# EAGLE library part STM32H747XIH6 (library sjg-stm32)
ARM Microcontrollers - MCU Source: Datasheet <https://www.st.com/en/microcontrollers-microprocessors/stm32h747xi.html>
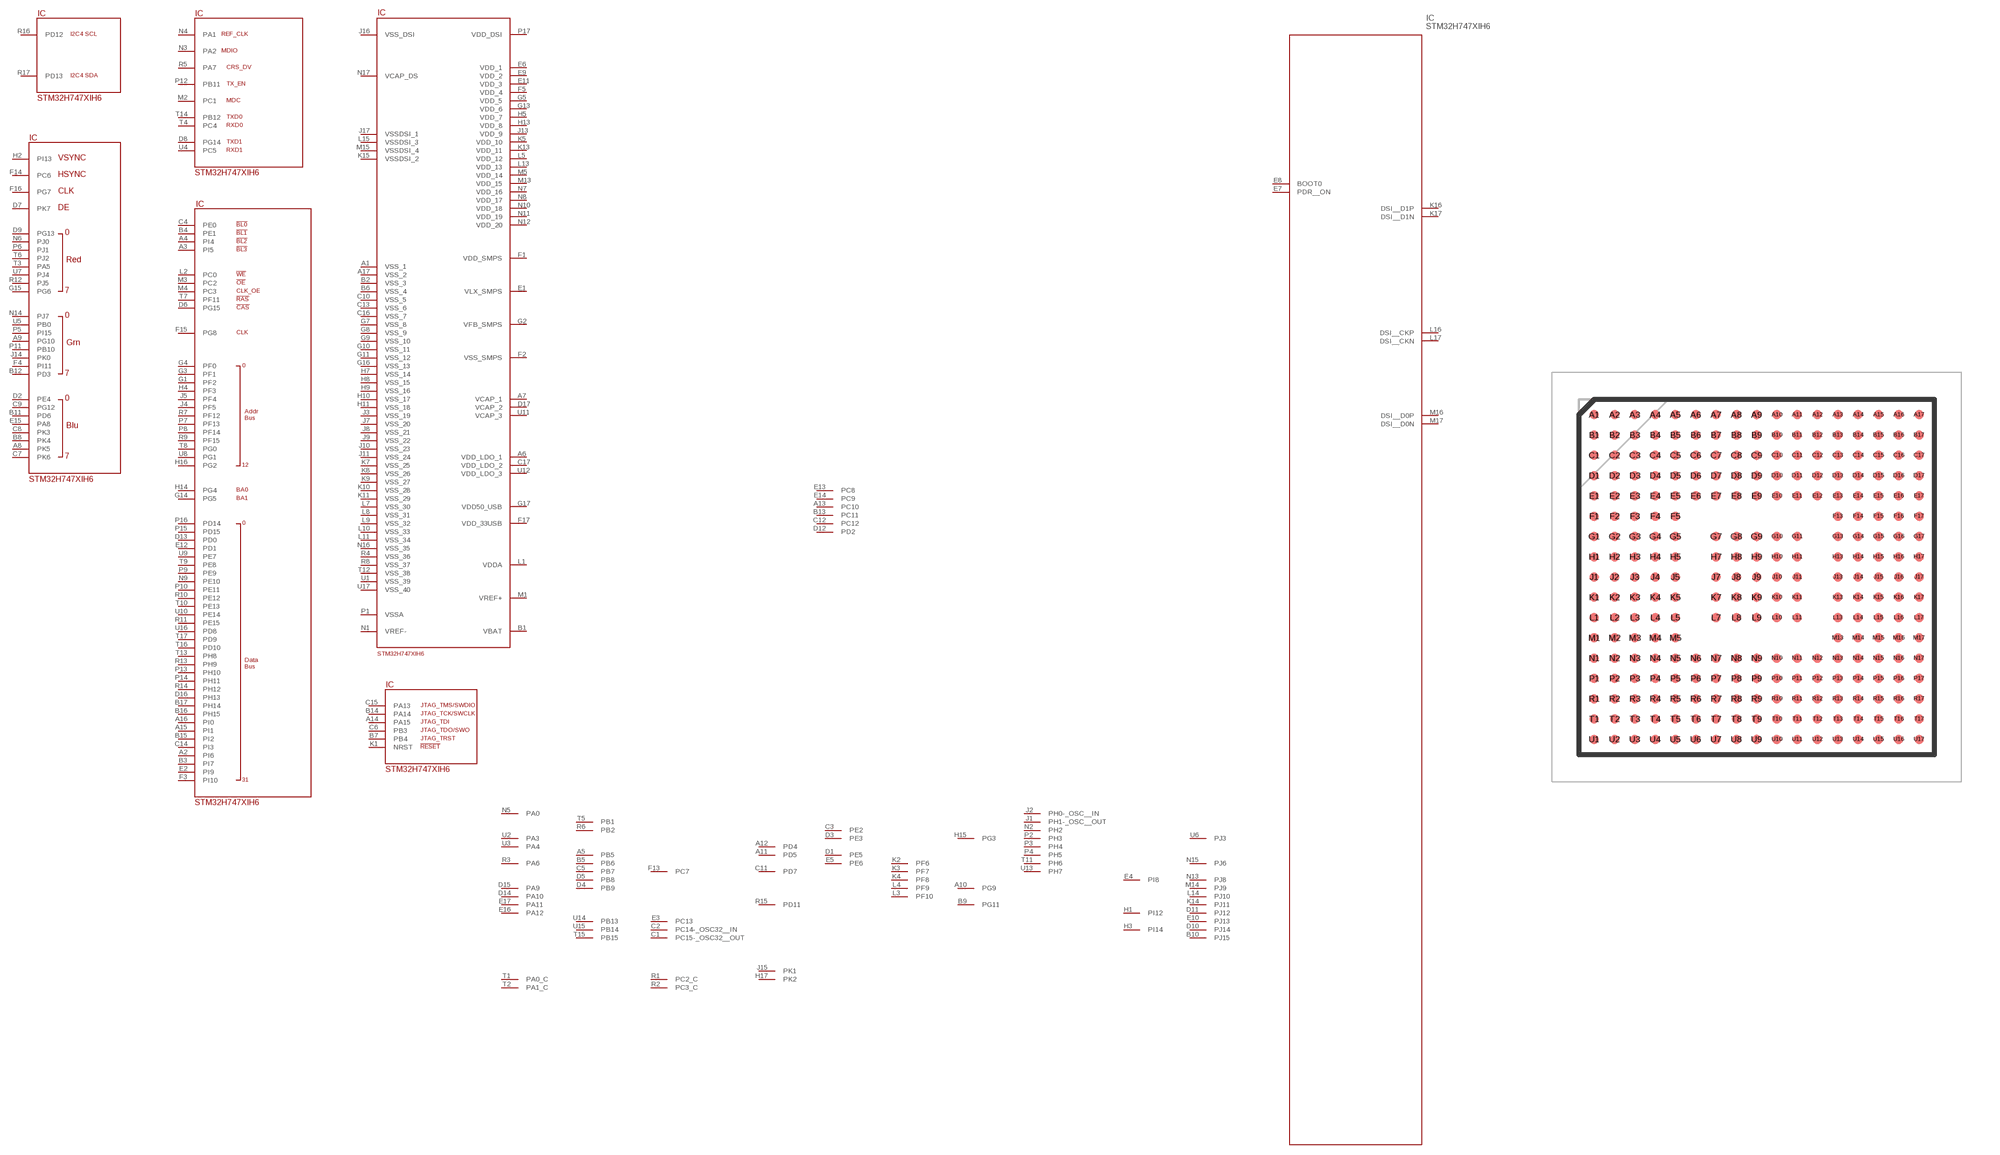
[diagram p9: symbol with the pads of BGA265C80P17X17_1400X1400X110; footprint BGA265C80P17X17_1400X1400X110]

Designator prefix IC

## STM32H747XIH6 (DESCRIPTION: ARM Microcontrollers - MCU; HEIGHT: 1.1mm; MANUFACTURER_NAME: STMicroelectronics; MANUFACTURER_PART_NUMBER: STM32H747XIH6; MOUSER_PART_NUMBER: 511-STM32H747XIH6; MOUSER_PRICE-STOCK: https://www.mouser.com/Search/Refine.aspx?Keyword=511-STM32H747XIH6)  [BGA265C80P17X17_1400X1400X110]
A1  VSS_1
A2  PI6
A3  PI5
A4  PI4
A5  PB5
A6  VDD_LDO_1
A7  VCAP_1
A8  PK5
A9  PG10
A10  PG9
A11  PD5
A12  PD4
A13  PC10
A14  PA15
A15  PI1
A16  PI0
A17  VSS_2
B1  VBAT
B2  VSS_3
B3  PI7
B4  PE1
B5  PB6
B6  VSS_4
B7  PB4
B8  PK4
B9  PG11
B10  PJ15
B11  PD6
B12  PD3
B13  PC11
B14  PA14
B15  PI2
B16  PH15
B17  PH14
C1  PC15-_OSC32__OUT
C2  PC14-_OSC32__IN
C3  PE2
C4  PE0
C5  PB7
C6  PB3
C7  PK6
C8  PK3
C9  PG12
C10  VSS_5
C11  PD7
C12  PC12
C13  VSS_6
C14  PI3
C15  PA13
C16  VSS_7
C17  VDD_LDO_2
D1  PE5
D2  PE4
D3  PE3
D4  PB9
D5  PB8
D6  PG15
D7  PK7
D8  PG14
D9  PG13
D10  PJ14
D11  PJ12
D12  PD2
D13  PD0
D14  PA10
D15  PA9
D16  PH13
D17  VCAP_2
E1  VLX_SMPS
E2  PI9
E3  PC13
E4  PI8
E5  PE6
E6  VDD_1
E7  PDR__ON
E8  BOOT0
E9  VDD_2
E10  PJ13
E11  VDD_3
E12  PD1
E13  PC8
E14  PC9
E15  PA8
E16  PA12
E17  PA11
F1  VDD_SMPS
F2  VSS_SMPS
F3  PI10
F4  PI11
F5  VDD_4
F13  PC7
F14  PC6
F15  PG8
F16  PG7
F17  VDD_33USB
G1  PF2
G2  VFB_SMPS
G3  PF1
G4  PF0
G5  VDD_5
G7  VSS_8
G8  VSS_9
G9  VSS_10
G10  VSS_11
G11  VSS_12
G13  VDD_6
G14  PG5
G15  PG6
G16  VSS_13
G17  VDD50_USB
H1  PI12
H2  PI13
H3  PI14
H4  PF3
H5  VDD_7
H7  VSS_14
H8  VSS_15
H9  VSS_16
H10  VSS_17
H11  VSS_18
H13  VDD_8
H14  PG4
H15  PG3
H16  PG2
H17  PK2
J1  PH1-_OSC__OUT
J2  PH0-_OSC__IN
J3  VSS_19
J4  PF5
J5  PF4
J7  VSS_20
J8  VSS_21
J9  VSS_22
J10  VSS_23
J11  VSS_24
J13  VDD_9
J14  PK0
J15  PK1
J16  VSS_DSI
J17  VSSDSI_1
K1  NRST
K2  PF6
K3  PF7
K4  PF8
K5  VDD_10
K7  VSS_25
K8  VSS_26
K9  VSS_27
K10  VSS_28
K11  VSS_29
K13  VDD_11
K14  PJ11
K15  VSSDSI_2
K16  DSI__D1P
K17  DSI__D1N
L1  VDDA
L2  PC0
L3  PF10
L4  PF9
L5  VDD_12
L7  VSS_30
L8  VSS_31
L9  VSS_32
L10  VSS_33
L11  VSS_34
L13  VDD_13
L14  PJ10
L15  VSSDSI_3
L16  DSI__CKP
L17  DSI__CKN
M1  VREF+
M2  PC1
M3  PC2
M4  PC3
M5  VDD_14
M13  VDD_15
M14  PJ9
M15  VSSDSI_4
M16  DSI__D0P
M17  DSI__D0N
N1  VREF-
N2  PH2
N3  PA2
N4  PA1
N5  PA0
N6  PJ0
N7  VDD_16
N8  VDD_17
N9  PE10
N10  VDD_18
N11  VDD_19
N12  VDD_20
N13  PJ8
N14  PJ7
N15  PJ6
N16  VSS_35
N17  VCAP_DS
P1  VSSA
P2  PH3
P3  PH4
P4  PH5
P5  PI15
P6  PJ1
P7  PF13
P8  PF14
P9  PE9
P10  PE11
P11  PB10
P12  PB11
P13  PH10
P14  PH11
P15  PD15
P16  PD14
P17  VDD_DSI
R1  PC2_C
R2  PC3_C
R3  PA6
R4  VSS_36
R5  PA7
R6  PB2
R7  PF12
R8  VSS_37
R9  PF15
R10  PE12
R11  PE15
R12  PJ5
R13  PH9
R14  PH12
R15  PD11
R16  PD12
R17  PD13
T1  PA0_C
T2  PA1_C
T3  PA5
T4  PC4
T5  PB1
T6  PJ2
T7  PF11
T8  PG0
T9  PE8
T10  PE13
T11  PH6
T12  VSS_38
T13  PH8
T14  PB12
T15  PB15
T16  PD10
T17  PD9
U1  VSS_39
U2  PA3
U3  PA4
U4  PC5
U5  PB0
U6  PJ3
U7  PJ4
U8  PG1
U9  PE7
U10  PE14
U11  VCAP_3
U12  VDD_LDO_3
U13  PH7
U14  PB13
U15  PB14
U16  PD8
U17  VSS_40

## Footprint BGA265C80P17X17_1400X1400X110 (pad centres in mm)
TFBGA240+25 is a 265 ball
smd 0.37 x 0.37: A1 -6.4,6.4; A2 -5.6,6.4; A3 -4.8,6.4; A4 -4,6.4; A5 -3.2,6.4; A6 -2.4,6.4; A7 -1.6,6.4; A8 -0.8,6.4; A9 0,6.4; A10 0.8,6.4; A11 1.6,6.4; A12 2.4,6.4; A13 3.2,6.4; A14 4,6.4; A15 4.8,6.4; A16 5.6,6.4; A17 6.4,6.4; B1 -6.4,5.6; B2 -5.6,5.6; B3 -4.8,5.6; B4 -4,5.6; B5 -3.2,5.6; B6 -2.4,5.6; B7 -1.6,5.6; B8 -0.8,5.6; B9 0,5.6; B10 0.8,5.6; B11 1.6,5.6; B12 2.4,5.6; B13 3.2,5.6; B14 4,5.6; B15 4.8,5.6; B16 5.6,5.6; B17 6.4,5.6; C1 -6.4,4.8; C2 -5.6,4.8; C3 -4.8,4.8; C4 -4,4.8; C5 -3.2,4.8; C6 -2.4,4.8; C7 -1.6,4.8; C8 -0.8,4.8; C9 0,4.8; C10 0.8,4.8; C11 1.6,4.8; C12 2.4,4.8; C13 3.2,4.8; C14 4,4.8; C15 4.8,4.8; C16 5.6,4.8; C17 6.4,4.8; D1 -6.4,4; D2 -5.6,4; D3 -4.8,4; D4 -4,4; D5 -3.2,4; D6 -2.4,4; D7 -1.6,4; D8 -0.8,4; D9 0,4; D10 0.8,4; D11 1.6,4; D12 2.4,4; D13 3.2,4; D14 4,4; D15 4.8,4; D16 5.6,4; D17 6.4,4; E1 -6.4,3.2; E2 -5.6,3.2; E3 -4.8,3.2; E4 -4,3.2; E5 -3.2,3.2; E6 -2.4,3.2; E7 -1.6,3.2; E8 -0.8,3.2; E9 0,3.2; E10 0.8,3.2; E11 1.6,3.2; E12 2.4,3.2; E13 3.2,3.2; E14 4,3.2; E15 4.8,3.2; E16 5.6,3.2; E17 6.4,3.2; F1 -6.4,2.4; F2 -5.6,2.4; F3 -4.8,2.4; F4 -4,2.4; F5 -3.2,2.4; F13 3.2,2.4; F14 4,2.4; F15 4.8,2.4; F16 5.6,2.4; F17 6.4,2.4; G1 -6.4,1.6; G2 -5.6,1.6; G3 -4.8,1.6; G4 -4,1.6; G5 -3.2,1.6; G7 -1.6,1.6; G8 -0.8,1.6; G9 0,1.6; G10 0.8,1.6; G11 1.6,1.6; G13 3.2,1.6; G14 4,1.6; G15 4.8,1.6; G16 5.6,1.6; G17 6.4,1.6; H1 -6.4,0.8; H2 -5.6,0.8; H3 -4.8,0.8; H4 -4,0.8; H5 -3.2,0.8; H7 -1.6,0.8; H8 -0.8,0.8; H9 0,0.8; H10 0.8,0.8; H11 1.6,0.8; H13 3.2,0.8; H14 4,0.8; H15 4.8,0.8; H16 5.6,0.8; H17 6.4,0.8; J1 -6.4,0; J2 -5.6,0; J3 -4.8,0; J4 -4,0; J5 -3.2,0; J7 -1.6,0; J8 -0.8,0; J9 0,0; J10 0.8,0; J11 1.6,0; J13 3.2,0; J14 4,0; J15 4.8,0; J16 5.6,0; J17 6.4,0; K1 -6.4,-0.8; K2 -5.6,-0.8; K3 -4.8,-0.8; K4 -4,-0.8; K5 -3.2,-0.8; K7 -1.6,-0.8; K8 -0.8,-0.8; K9 0,-0.8; K10 0.8,-0.8; K11 1.6,-0.8; K13 3.2,-0.8; K14 4,-0.8; K15 4.8,-0.8; K16 5.6,-0.8; K17 6.4,-0.8; L1 -6.4,-1.6; L2 -5.6,-1.6; L3 -4.8,-1.6; L4 -4,-1.6; L5 -3.2,-1.6; L7 -1.6,-1.6; L8 -0.8,-1.6; L9 0,-1.6; L10 0.8,-1.6; L11 1.6,-1.6; L13 3.2,-1.6; L14 4,-1.6; L15 4.8,-1.6; L16 5.6,-1.6; L17 6.4,-1.6; M1 -6.4,-2.4; M2 -5.6,-2.4; M3 -4.8,-2.4; M4 -4,-2.4; M5 -3.2,-2.4; M13 3.2,-2.4; M14 4,-2.4; M15 4.8,-2.4; M16 5.6,-2.4; M17 6.4,-2.4; N1 -6.4,-3.2; N2 -5.6,-3.2; N3 -4.8,-3.2; N4 -4,-3.2; N5 -3.2,-3.2; N6 -2.4,-3.2; N7 -1.6,-3.2; N8 -0.8,-3.2; N9 0,-3.2; N10 0.8,-3.2; N11 1.6,-3.2; N12 2.4,-3.2; N13 3.2,-3.2; N14 4,-3.2; N15 4.8,-3.2; N16 5.6,-3.2; N17 6.4,-3.2; P1 -6.4,-4; P2 -5.6,-4; P3 -4.8,-4; P4 -4,-4; P5 -3.2,-4; P6 -2.4,-4; P7 -1.6,-4; P8 -0.8,-4; P9 0,-4; P10 0.8,-4; P11 1.6,-4; P12 2.4,-4; P13 3.2,-4; P14 4,-4; P15 4.8,-4; P16 5.6,-4; P17 6.4,-4; R1 -6.4,-4.8; R2 -5.6,-4.8; R3 -4.8,-4.8; R4 -4,-4.8; R5 -3.2,-4.8; R6 -2.4,-4.8; R7 -1.6,-4.8; R8 -0.8,-4.8; R9 0,-4.8; R10 0.8,-4.8; R11 1.6,-4.8; R12 2.4,-4.8; R13 3.2,-4.8; R14 4,-4.8; R15 4.8,-4.8; R16 5.6,-4.8; R17 6.4,-4.8; T1 -6.4,-5.6; T2 -5.6,-5.6; T3 -4.8,-5.6; T4 -4,-5.6; T5 -3.2,-5.6; T6 -2.4,-5.6; T7 -1.6,-5.6; T8 -0.8,-5.6; T9 0,-5.6; T10 0.8,-5.6; T11 1.6,-5.6; T12 2.4,-5.6; T13 3.2,-5.6; T14 4,-5.6; T15 4.8,-5.6; T16 5.6,-5.6; T17 6.4,-5.6; U1 -6.4,-6.4; U2 -5.6,-6.4; U3 -4.8,-6.4; U4 -4,-6.4; U5 -3.2,-6.4; U6 -2.4,-6.4; U7 -1.6,-6.4; U8 -0.8,-6.4; U9 0,-6.4; U10 0.8,-6.4; U11 1.6,-6.4; U12 2.4,-6.4; U13 3.2,-6.4; U14 4,-6.4; U15 4.8,-6.4; U16 5.6,-6.4; U17 6.4,-6.4